# EAGLE library part LM2936HVMAX-5.0/NOPB (library power_supplies)
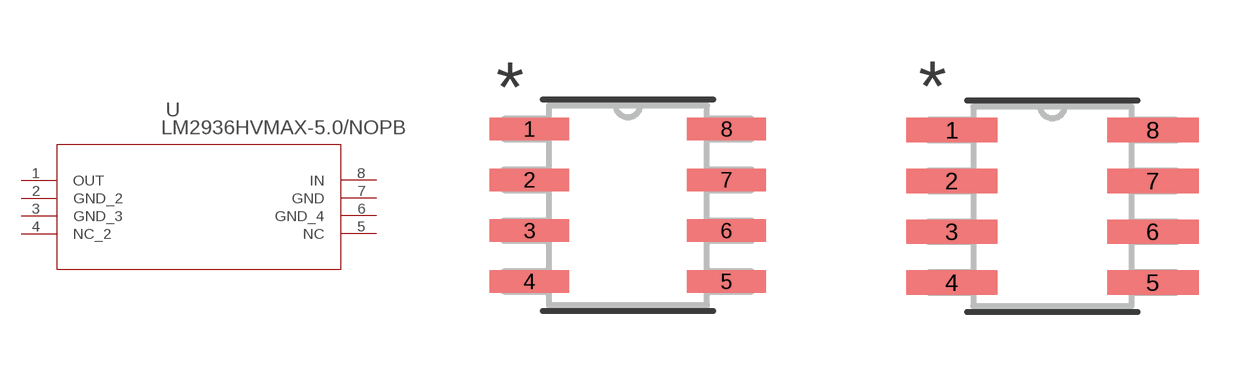
[diagram p3: symbol with the pads of M08A; footprints M08A, M08A-M]

Designator prefix U

## LM2936HVMAX-5.0/NOPB (DESCRIPTION: IC REG LINEAR 5V 50MA 8SOIC; MANUFACTURER: Texas Instruments; MPN: LM2936HVMAX5.0NOPB)  [M08A]
1  OUT  pwr
2  GND_2  pwr
3  GND_3  pwr
4  NC_2  pas
5  NC  pas
6  GND_4  pwr
7  GND  pwr
8  IN  pwr

## LM2936HVMAX-5.0/NOPBM08A-M (MANUFACTURER_PART_NUMBER: LM2936HVMAX5.0NOPB; VENDOR: Texas Instruments)  [M08A-M]
Pads as for M08A

## LM2936HVMAX-5.0/NOPBM08A-L (MANUFACTURER_PART_NUMBER: LM2936HVMAX5.0NOPB; VENDOR: Texas Instruments)  [M08A-L]
Pads as for M08A

## Footprint M08A (pad centres in mm)
smd 1.981 x 0.559: 1 -2.464,1.905; 2 -2.464,0.635; 3 -2.464,-0.635; 4 -2.464,-1.905; 5 2.464,-1.905; 6 2.464,-0.635; 7 2.464,0.635; 8 2.464,1.905

## Footprint M08A-M (pad centres in mm)
smd 2.286 x 0.61: 1 -2.515,1.905; 2 -2.515,0.635; 3 -2.515,-0.635; 4 -2.515,-1.905; 5 2.515,-1.905; 6 2.515,-0.635; 7 2.515,0.635; 8 2.515,1.905

## Footprint M08A-L (pad centres in mm)
smd 1.676 x 0.508: 1 -2.413,1.905; 2 -2.413,0.635; 3 -2.413,-0.635; 4 -2.413,-1.905; 5 2.413,-1.905; 6 2.413,-0.635; 7 2.413,0.635; 8 2.413,1.905